# Altium footprint library SOT91P240X105-3N.PcbLib: 1 footprints
Each footprint in its own frame and in the unit in brackets; x right, y up, seen from the top. Pads: shape width x height; smd on the part's side, far side on the other; paste and mask are expansions set on the pad; w line width, h text height; cw(c..) or ccw(c..) is an arc to the next point about the centre after c.
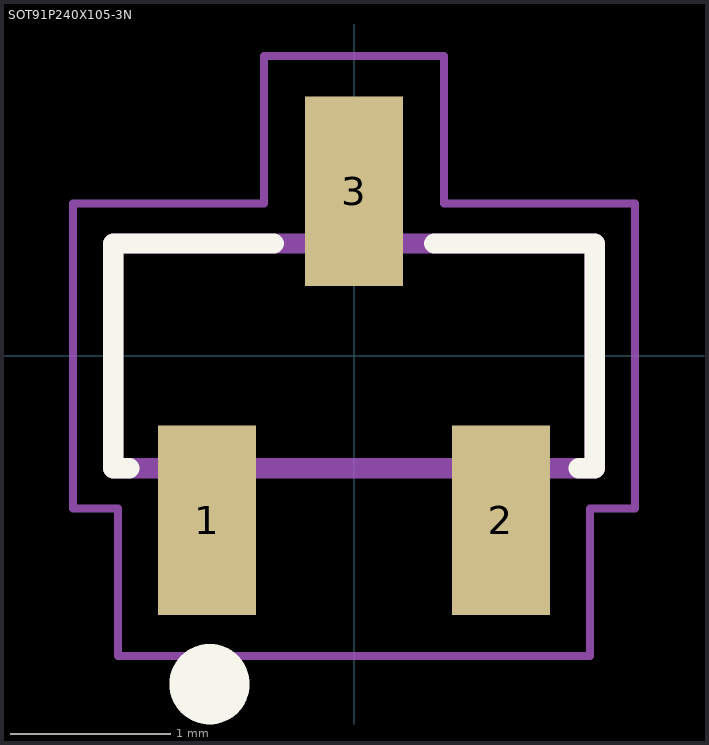
[diagram p0: the footprint, top view; thin cyan lines are the x and y axes]

## SOT91P240X105-3N [mm]
pads (3):
  rect 0.61x1.18 smd: 1(-0.915,-1.025) 2(0.915,-1.025) 3(0,1.025)
Top Overlay:
  circle w0.4: c-0.9,-2.046 r0.05
  lines w0.127: -1.4,-0.7 -1.5,-0.7 -1.5,0.7 -0.5,0.7 ; 0.5,0.7 1.5,0.7 1.5,-0.7 1.4,-0.7
Mechanical 13:
  lines w0.127: -1.5,-0.7 1.5,-0.7 1.5,0.7 -1.5,0.7 -1.5,-0.7
Mechanical 15:
  lines w0.05: -1.75,-0.95 -1.47,-0.95 -1.47,-1.87 1.47,-1.87 1.47,-0.95 1.75,-0.95 1.75,0.95 0.56,0.95 0.56,1.87 -0.56,1.87 -0.56,0.95 -1.75,0.95 -1.75,-0.95
3D body "step_model.STEP": height 1.08, standoff -0.02, extent -1.5,-1.31 1.5,1.31